# Altium footprint library ELPAC78_STACK.PcbLib: 1 footprints
Each footprint in its own frame and in the unit in brackets; x right, y up, seen from the top. Pads: shape width x height; smd on the part's side, far side on the other; paste and mask are expansions set on the pad; w line width, h text height; cw(c..) or ccw(c..) is an arc to the next point about the centre after c.
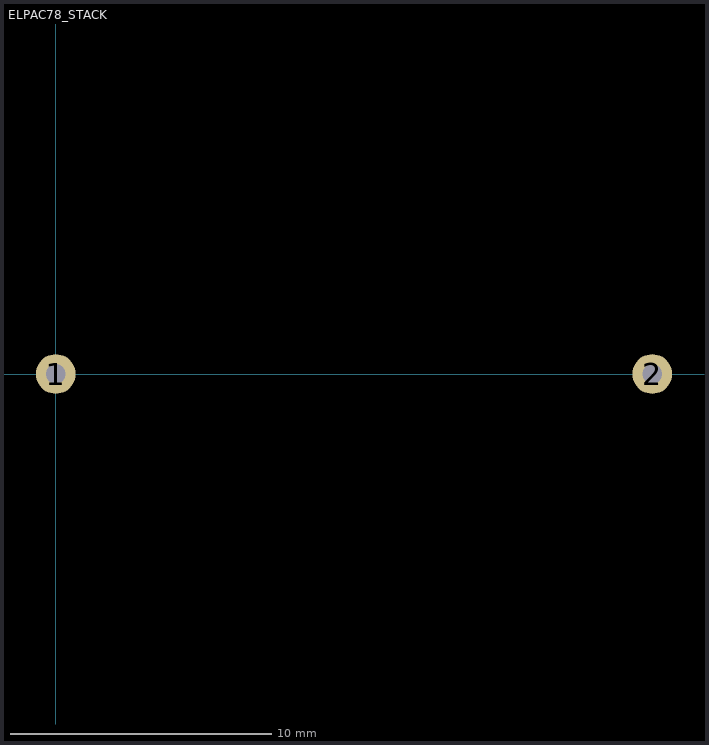
[diagram p0: the footprint, top view; thin cyan lines are the x and y axes]

## ELPAC78_STACK [mil]
pads (2):
  round 60 hole 30: 1(0,0) 2(900,0)
Bottom Overlay:
  lines w8: 37,0 864,0
3D body: height 639.38, standoff -107, extent -10.02,-515.13 914.98,122.76